# EAGLE library part MOLEX_CONNECTORS_SMD_NHD-4.3-480272EF-ATXL (library nhd-4_3-adapter)
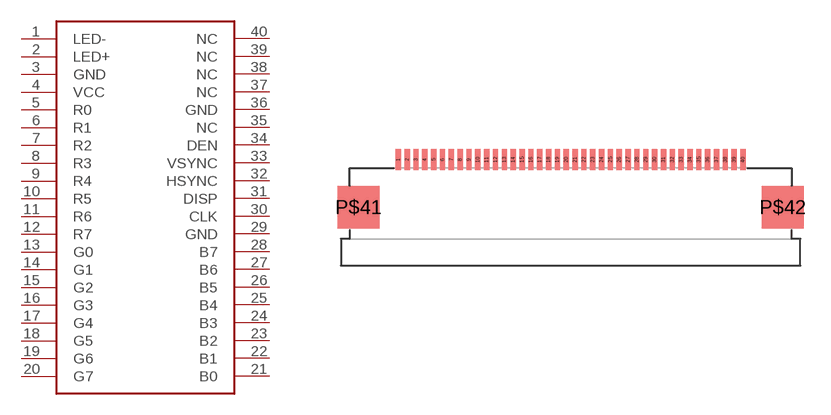
[diagram p0: symbol with the pads of MOLEX_CONNECTORS_SMD_40-PIN_SMD; footprint MOLEX_CONNECTORS_SMD_40-PIN_SMD]

Designator prefix TFT

## MOLEX_CONNECTORS_SMD_NHD-4.3-480272EF-ATXL  [MOLEX_CONNECTORS_SMD_40-PIN_SMD]
1  LED-
2  LED+
3  GND
4  VCC
5  R0
6  R1
7  R2
8  R3
9  R4
10  R5
11  R6
12  R7
13  G0
14  G1
15  G2
16  G3
17  G4
18  G5
19  G6
20  G7
21  B0
22  B1
23  B2
24  B3
25  B4
26  B5
27  B6
28  B7
29  GND
30  CLK
31  DISP
32  HSYNC
33  VSYNC
34  DEN
35  NC
36  GND
37  NC
38  NC
39  NC
40  NC

## Footprint MOLEX_CONNECTORS_SMD_40-PIN_SMD (pad centres in mm)
smd 0.3 x 1.2: 1 -9.75,0; 2 -9.25,0; 3 -8.75,0; 4 -8.25,0; 5 -7.75,0; 6 -7.25,0; 7 -6.75,0; 8 -6.25,0; 9 -5.75,0; 10 -5.25,0; 11 -4.75,0; 12 -4.25,0; 13 -3.75,0; 14 -3.25,0; 15 -2.75,0; 16 -2.25,0; 17 -1.75,0; 18 -1.25,0; 19 -0.75,0; 20 -0.25,0; 21 0.25,0; 22 0.75,0; 23 1.25,0; 24 1.75,0; 25 2.25,0; 26 2.75,0; 27 3.25,0; 28 3.75,0; 29 4.25,0; 30 4.75,0; 31 5.25,0; 32 5.75,0; 33 6.25,0; 34 6.75,0; 35 7.25,0; 36 7.75,0; 37 8.25,0; 38 8.75,0; 39 9.25,0; 40 9.75,0
smd 2.4 x 2.4: P$41 -12,-2.7; P$42 12,-2.7